# Altium schematic symbol library AltiumWorkshopBasic.SchLib: 16 symbols
Pins are listed as number, name and electrical type; pins without a type are passive.

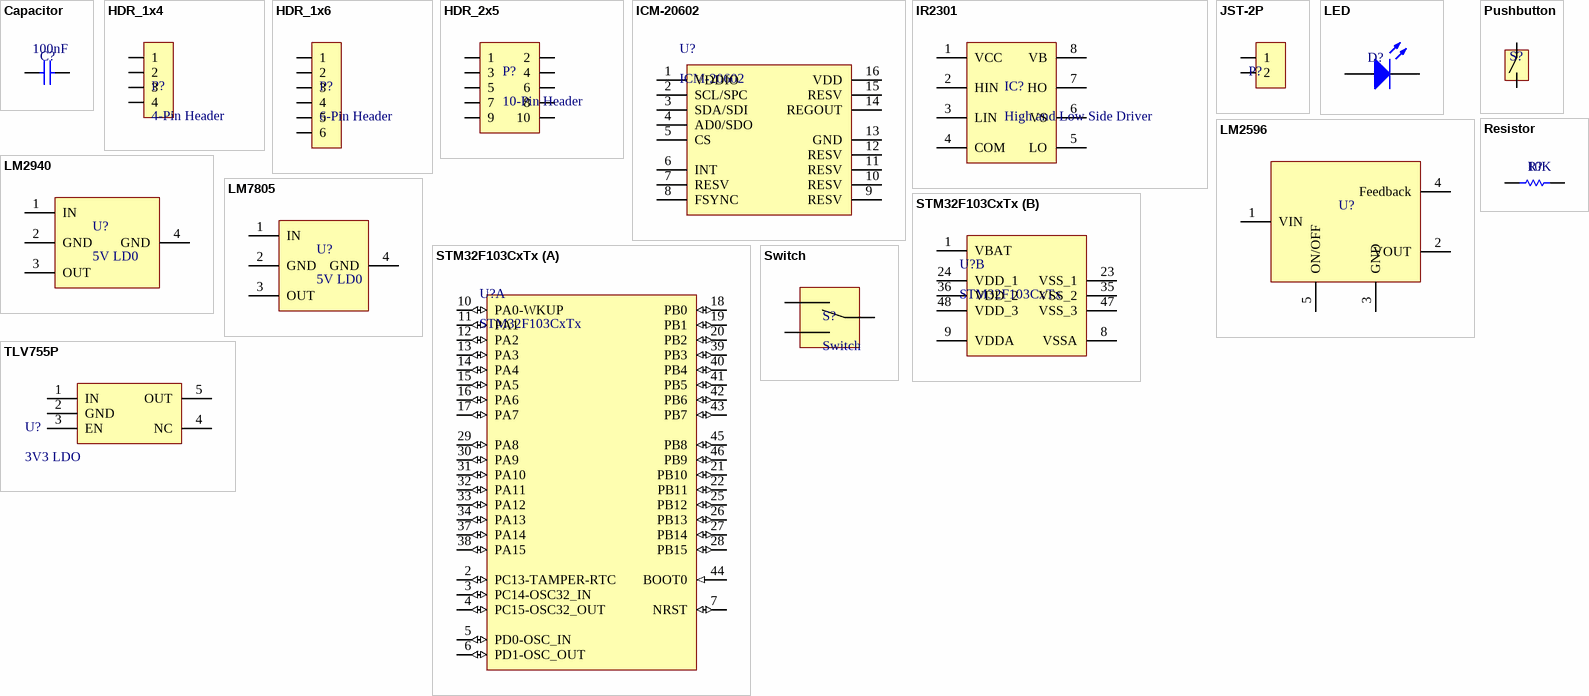
[diagram p0: symbols Capacitor to TLV755P]

## Capacitor
designator C?  Capacitance: 100nF
Generic Capacitor
footprint CAP_0603
pins: 1, 2

## HDR_1x4
designator P?, comment 4-Pin Header
footprint HDR-4P
pins: 1, 2, 3, 4

## HDR_1x6
designator P?, comment 6-Pin Header
footprint HDR-6P
pins: 1, 2, 3, 4, 5, 6

## HDR_2x5
designator P?, comment 10-Pin Header
2x5 Pin Header
footprint HDR-2x5
pins: 1, 2, 3, 4, 5, 6, 7, 8, 9, 10

## ICM-20602
designator U?
6-Axis MEMS IMU; ComponentLink1Description: Datasheet; ComponentLink1URL: http://www.invensense.com/wp-content/uploads/2016/10/DS-000176-ICM-20602-v1.0.pdf; ComponentLink2Description: DigiKey; ComponentLink2URL: https://www.digikey.com/product-detail/en/tdk-invensense/ICM-20602/1428-1060-1-ND/5872875
footprint ICM-20602 LGA (LGA for ICM-20602)
pins: 1 VDDIO, 2 SCL/SPC, 3 SDA/SDI, 4 AD0/SDO, 5 CS, 6 INT, 7 RESV, 8 FSYNC, 9 RESV, 10 RESV, 11 RESV, 12 RESV, 13 GND, 14 REGOUT, 15 RESV, 16 VDD

## IR2301
designator IC?, comment High and Low Side Driver
pins: 1 VCC, 2 HIN, 3 LIN, 4 COM, 5 LO, 6 VS, 7 HO, 8 VB

## JST-2P
designator P?, comment JST-2P Connector  (value not drawn)
Generic 2-Pin JST Connector
footprint JST-PH-2 (JST 2 Pin Connector)
pins: 1, 2

## LED
designator D?
Generic LED; Color: Red
footprint LED_0805
pins: 1 A, 2 K

## LM2596
designator U?, comment Step-down switching regulator  (value not drawn)
pins: 1 VIN, 2 VOUT, 3 GND, 4 Feedback, 5 ON/OFF

## LM2940
designator U?, comment 5V LD0
5V Voltage Regulator
footprint SOT230P700X180-4N (SOT223, 4-Leads, Body 6.50x7.00mm (avg), Pitch 2.30mm, IPC Medium Density)
pins: 1 IN, 2 GND, 3 OUT, 4 GND

## LM7805
designator U?, comment 5V LD0
5V Linear Voltage Regulator
footprint SOT223 LM7805 (SOT223, 4-Leads, LM7805)
pins: 1 IN, 2 GND, 3 OUT, 4 GND

## Pushbutton
designator S?
Generic Pushbutton; ComponentLink1Description: DigiKey; ComponentLink1URL: https://www.digikey.com/product-detail/en/KMR731NG+LFS/CKN10687CT-ND/6035359/?itemSeq=297020396
footprint PUSHBUTTON (C&K KMR7)
pins: 1, 2

## Resistor
designator R?  Resistance: 10K
Generic Resistor
footprint RES_0603
pins: 1, 2

## STM32F103CxTx
designator U?
STM32 MCU, 48 Pins LQFP; ComponentLink1Description: Reference Manual; ComponentLink1URL: https://www.st.com/content/ccc/resource/technical/document/reference_manual/59/b9/ba/7f/11/af/43/d5/CD00171190.pdf/files/CD00171190.pdf/jcr:content/translations/en.CD00171190.pdf; ComponentLink2Description: Datasheet; ComponentLink2URL: https://www.st.com/resource/en/datasheet/stm32f103c8.pdf; ComponentLink3Description: DigiKey; ComponentLink3URL: https://www.digikey.com/product-detail/en/stmicroelectronics/STM32F103C6T6A/497-11515-ND/2035364
footprint LQFP48 (STM32 F103CxTx LQFP48)
part A pins: 2 PC13-TAMPER-RTC (io), 3 PC14-OSC32_IN (io), 4 PC15-OSC32_OUT (io), 5 PD0-OSC_IN (io), 6 PD1-OSC_OUT (io), 7 NRST (io), 10 PA0-WKUP (io), 11 PA1 (io), 12 PA2 (io), 13 PA3 (io), 14 PA4 (io), 15 PA5 (io), 16 PA6 (io), 17 PA7 (io), 18 PB0 (io), 19 PB1 (io), 20 PB2 (io), 21 PB10 (io), 22 PB11 (io), 25 PB12 (io), 26 PB13 (io), 27 PB14 (io), 28 PB15 (io), 29 PA8 (io), 30 PA9 (io), 31 PA10 (io), 32 PA11 (io), 33 PA12 (io), 34 PA13 (io), 37 PA14 (io), 38 PA15 (io), 39 PB3 (io), 40 PB4 (io), 41 PB5 (io), 42 PB6 (io), 43 PB7 (io), 44 BOOT0 (in), 45 PB8 (io), 46 PB9 (io)
part B pins: 1 VBAT (power), 8 VSSA (power), 9 VDDA (power), 23 VSS_1 (power), 24 VDD_1 (power), 35 VSS_2 (power), 36 VDD_2 (power), 47 VSS_3 (power), 48 VDD_3 (power)

## Switch
designator S?
footprint TMS6T5B2M2RE (Toggle Switch)
pins: 1, 2, 3

## TLV755P
designator U?, comment 3V3 LDO
3V3 Voltage Regulator; ComponentLink1Description: DigiKey; ComponentLink1URL: https://www.digikey.com/product-detail/en/texas-instruments/TLV75533PDBVR/296-50411-1-ND/9685550; ComponentLink2Description: Datasheet; ComponentLink2URL: http://www.ti.com/lit/ds/symlink/tlv755p.pdf
footprint SOT23 TLV755P (5-Lead SOT23 for TLV755P)
pins: 1 IN, 2 GND, 3 EN, 4 NC, 5 OUT